# EAGLE library part TS3USB30E (library signpost)
USB Mux with OE control and ESD
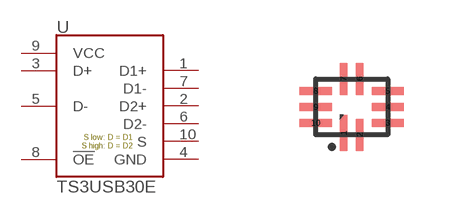
[diagram p15: symbol with the pads of UQFN-10; footprint UQFN-10]

Designator prefix U

## TS3USB30E (DIGIKEY: 296-24684-1-ND)  [UQFN-10]
1  D1+
2  D2+
3  D+
4  GND
5  D-
6  D2-
7  D1-
8  !OE
9  VCC
10  S

## Footprint UQFN-10 (pad centres in mm)
smd 0.2 x 0.9: 1 -0.2,-0.65
smd 0.2 x 0.8: 2 0.2,-0.7; 6 0.2,0.7; 7 -0.2,0.7
smd 0.8 x 0.2: 3 0.9,-0.4; 4 0.9,0; 5 0.9,0.4; 8 -0.9,0.4; 9 -0.9,0; 10 -0.9,-0.4